# Altium footprint library PowerHAT_1A1.PcbLib: 24 footprints (part 2 of 2)
Each footprint in its own frame and in the unit in brackets; x right, y up, seen from the top. Pads: shape width x height; smd on the part's side, far side on the other; paste and mask are expansions set on the pad; w line width, h text height; cw(c..) or ccw(c..) is an arc to the next point about the centre after c.
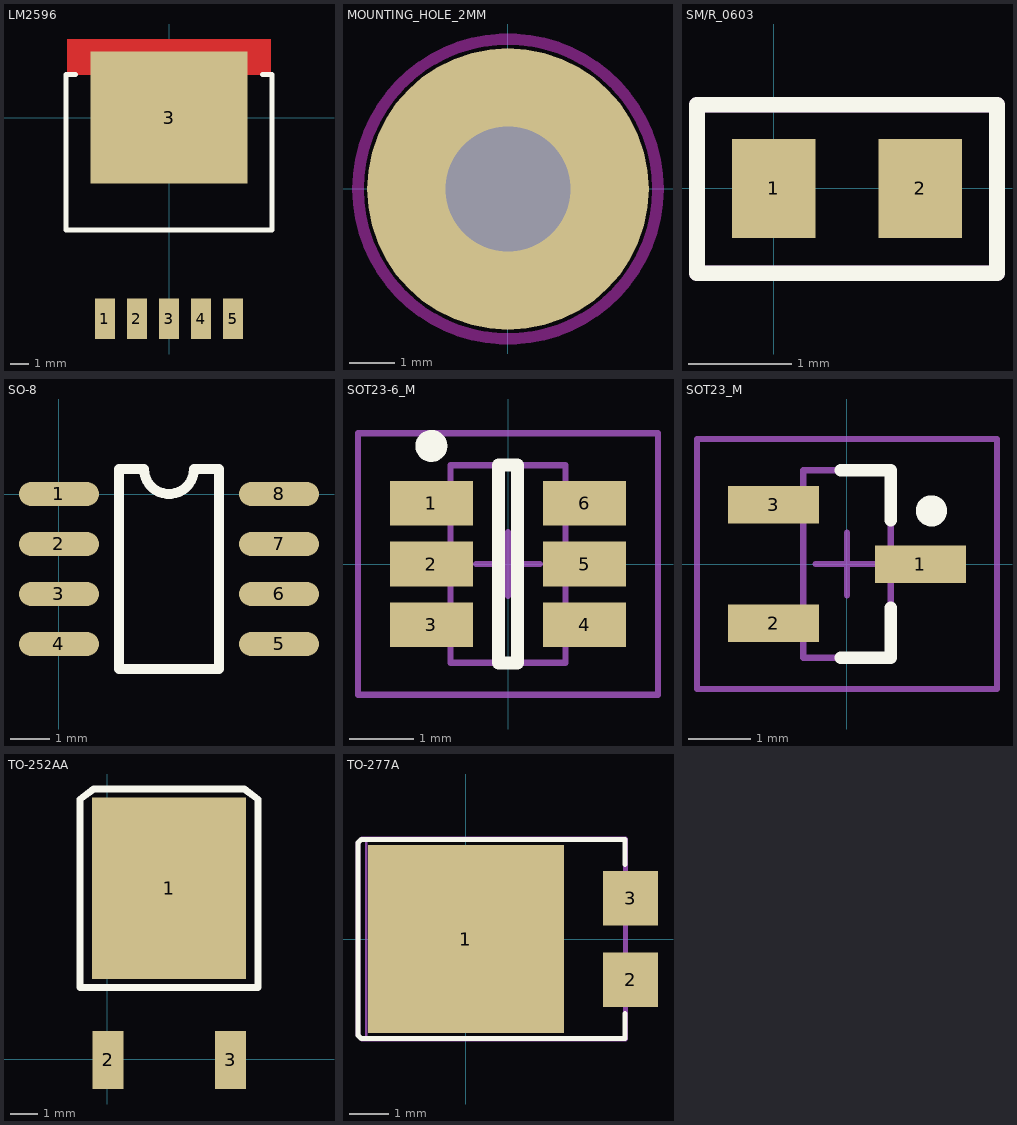
[diagram p1: the footprints below, top view; thin cyan lines are the x and y axes]

## LM2596 [mil] "TI LM2596 TO-263"
height 543.31
pads (6):
  rect 42x85 smd: 1(-134,-420) 2(-67,-420) 3(0,-420) 4(67,-420) 5(134,-420)
  rect 328x275 smd: 3(0,0)
Top Layer:
  region: -212,164 -212,89 212,89 212,164
Top Overlay:
  lines w10: -195,90 -215,90 -215,-235 215,-235 215,90 195,90
Mechanical 13:
  lines w7.87: -215,-235 -215,90 -195,90 -160,125 160,125 195,90 215,90 215,-235 -215,-235
3D body: height 20, standoff 0, extent 120,-425 145,-230
3D body: height 20, standoff 0, extent 55,-425 80,-230
3D body: height 20, standoff 0, extent -15,-425 10,-230
3D body: height 20, standoff 0, extent -80,-425 -55,-230
3D body: height 20, standoff 0, extent -145,-425 -120,-230
3D body: height 50, standoff 0, extent -200,110 200,137.5
3D body: height 180, standoff 0, extent -200,-230 200,108.75

## MOUNTING_HOLE_2MM [mm] "Non-plated mounting hole for 3mm screw"
height 3.5
pads (1):
  round 6.2 hole 2.75 mask+0.2: ""(0,0)
Keep-Out Layer:
  circle w0.254: c0,0 r3.302

## SM/R_0603 [mm]
height 2.54
pads (2):
  rect 0.813x0.965 smd: 1(0,0) 2(1.422,0)
Top Overlay:
  lines w0.152: -0.749,-0.826 2.171,-0.826 2.171,0.812 -0.749,0.812 -0.749,-0.826
Mechanical 1:
  lines w0.152: -0.749,-0.826 2.171,-0.826 2.171,0.812 -0.749,0.812 -0.749,-0.826
3D body: height 0.5, standoff 0.1, extent -0.305,-0.584 1.727,0.584

## SO-8 [mil]
height 452.76
pads (8):
  oval 80x24 smd: 1(0,0) 2(0,-50) 3(0,-100) 4(0,-150) 5(220,-150) 6(220,-100) 7(220,-50) 8(220,0)
Top Overlay:
  lines w10: 60,-175 160,-175 160,25 135,25 cw(c110,25) 85,25 60,25 60,-175
3D body: height 62.99, standoff 3.94, extent 59.98,-175.02 160.02,25.02

## SOT23-6_M [mm] "SOT23, 6-Leads, Body 2.9x1.6mm, Pitch 0.95mm, Lead Span 2.7mm, IPC Low Density"
height 1.45
pads (6):
  rect 1.3x0.7 smd: 1(-1.2,0.95) 2(-1.2,0) 3(-1.2,-0.95) 4(1.2,-0.95) 5(1.2,0) 6(1.2,0.95)
Top Overlay:
  circle w0.25: c-1.2,1.85 r0.125
  lines w0.2: -0.15,-1.55 -0.15,1.55 0.15,1.55 0.15,-1.55 -0.15,-1.55
Mechanical 13:
  lines w0.1: -0.9,-1.55 0.9,-1.55 0.9,1.55 -0.9,1.55 -0.9,-1.55
Mechanical 15:
  lines w0.1: -0.5,0 0.5,0 ; 0,-0.5 0,0.5 ; -2.35,-2.05 2.35,-2.05 2.35,2.05 -2.35,2.05 -2.35,-2.05
3D body: height 1.45, standoff 0, extent -0.9,-1.55 0.9,1.55

## SOT23_M [mm] "SOT23, 3-Leads, Body 2.9x1.3mm, Pitch 0.95mm, Lead Span 2.3mm - Reverse Pinning, IPC Low Density"
height 1.1
pads (3):
  rect 1.45x0.6 smd: 1(1.175,0) 2(-1.175,-0.95) 3(-1.175,0.95)
Top Overlay:
  circle w0.25: c1.35,0.85 r0.125
  lines w0.2: -0.1,-1.5 0.7,-1.5 0.7,-0.7 ; -0.1,1.5 0.7,1.5 0.7,0.7
Mechanical 13:
  lines w0.1: -0.7,-1.5 -0.7,1.5 0.7,1.5 0.7,-1.5 -0.7,-1.5
Mechanical 15:
  lines w0.1: -0.5,0 0.5,0 ; 0,-0.5 0,0.5 ; -2.4,-2 -2.4,2 2.4,2 2.4,-2 -2.4,-2
3D body: height 1.1, standoff 0, extent -0.7,-1.5 0.7,1.5

## TO-252AA [mil]
pads (3):
  rect 225x265 smd: 1(90,250)
  rect 45x85 smd: 2(1,-1) 3(180,-1)
Top Overlay:
  lines w10: -40,105 220,105 220,380 200,395 90,395 -20,395 -40,380 -40,105
3D body: height 19.68, standoff 0, extent 165,0 195,110
3D body: height 19.68, standoff 0, extent 75,75 100,110
3D body: height 19.68, standoff 0, extent -15,0 15,110
3D body: height 29.53, standoff 0, extent -26.5,350 206.5,380
3D body: height 51.18, standoff 3.94, extent -26.5,105 206.5,350

## TO-277A [mm] "Diode; 3 Leads"
height 1.219
pads (3):
  rect 5x4.8 smd: 1(0,0)
  rect 1.4x1.4 smd: 2(4.2,-1.04) 3(4.2,1.04)
Top Overlay:
  lines w0.127: 4.064,-1.905 4.064,-2.54 -2.667,-2.54 -2.75,-2.457 -2.75,-0.889 -2.75,2.457 -2.667,2.54 4.064,2.54 4.064,1.905
Mechanical 1:
  lines w0.065: -2.54,-2.54 -2.54,2.54 4.064,2.54 4.064,-2.54 -2.54,-2.54
Mechanical 13:
  lines w0.125: -2.75,-2.45 -2.65,-2.55 4.075,-2.55 4.075,2.55 -2.65,2.55 -2.75,2.45 -2.75,-2.45
3D body: height 0.3, standoff 0, extent 1.397,-2.286 2.286,-2.159
3D body: height 0.3, standoff 0, extent 1.397,2.159 2.286,2.286
3D body: height 0.3, standoff 0, extent -2.286,-1.016 -2.159,1.016
3D body: height 0.3, standoff 0, extent 4.064,-1.524 4.191,-0.508
3D body: height 0.3, standoff 0, extent 4.064,0.508 4.191,1.524
3D body: height 1.2, standoff 0, extent -2.159,-2.159 4.064,2.159